# Altium schematic symbol library Clock Oscillator - ECS, ECS-2325, ECS-2333.SchLib: 1 symbol
Pins are listed as number, name and electrical type; pins without a type are passive.

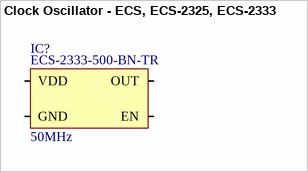
[diagram p0: symbol Clock Oscillator - ECS, ECS-2325, ECS-2333]

## Clock Oscillator - ECS, ECS-2325, ECS-2333
designator IC?  Frequency: 50MHz  Manufacturer Part Number: ECS-2333-500-BN-TR  (hidden comment: *)
IC, Oscillator, 50MHz; Manufacturer: ECS; ComponentLink1Description: Datasheet; ComponentLink1URL: E:\Altium\Datasheets\IC - Clock, Timing, Oscillator\Clock Oscillator - ECS, ECS-2325, ECS-2333.pdf; ComponentLink2Description: Supplier Link; ComponentLink2URL: https://www.digikey.com/en/products/detail/ecs-inc/ECS-2333-500-BN-TR/3927356; Supplier: Digikey; Supplier Part Number: XC1930CT-ND; Operating Temperature, Min: -40℃; Operating Temperature, Max: +85℃; Quantity, Min: 1; Quantity, Max: 10000; Price, Min: 1.24; Supplier Currency: $; Price, Max: 0.71656; Supplier Link: https://www.digikey.com/en/products/detail/ecs-inc/ECS-2333-500-BN-TR/3927356; Component Type: Clock, Timing, Oscillator; Component Category: IC; Package: Flat, 3.2mm x 2.5mm
footprint Clock Oscillator - ECS, ECS-2325, ECS-2333
pins: EN, GND, OUT, VDD